# Altium footprint library Transistors.PcbLib: 12 footprints
Each footprint in its own frame and in the unit in brackets; x right, y up, seen from the top. Pads: shape width x height; smd on the part's side, far side on the other; paste and mask are expansions set on the pad; w line width, h text height; cw(c..) or ccw(c..) is an arc to the next point about the centre after c.
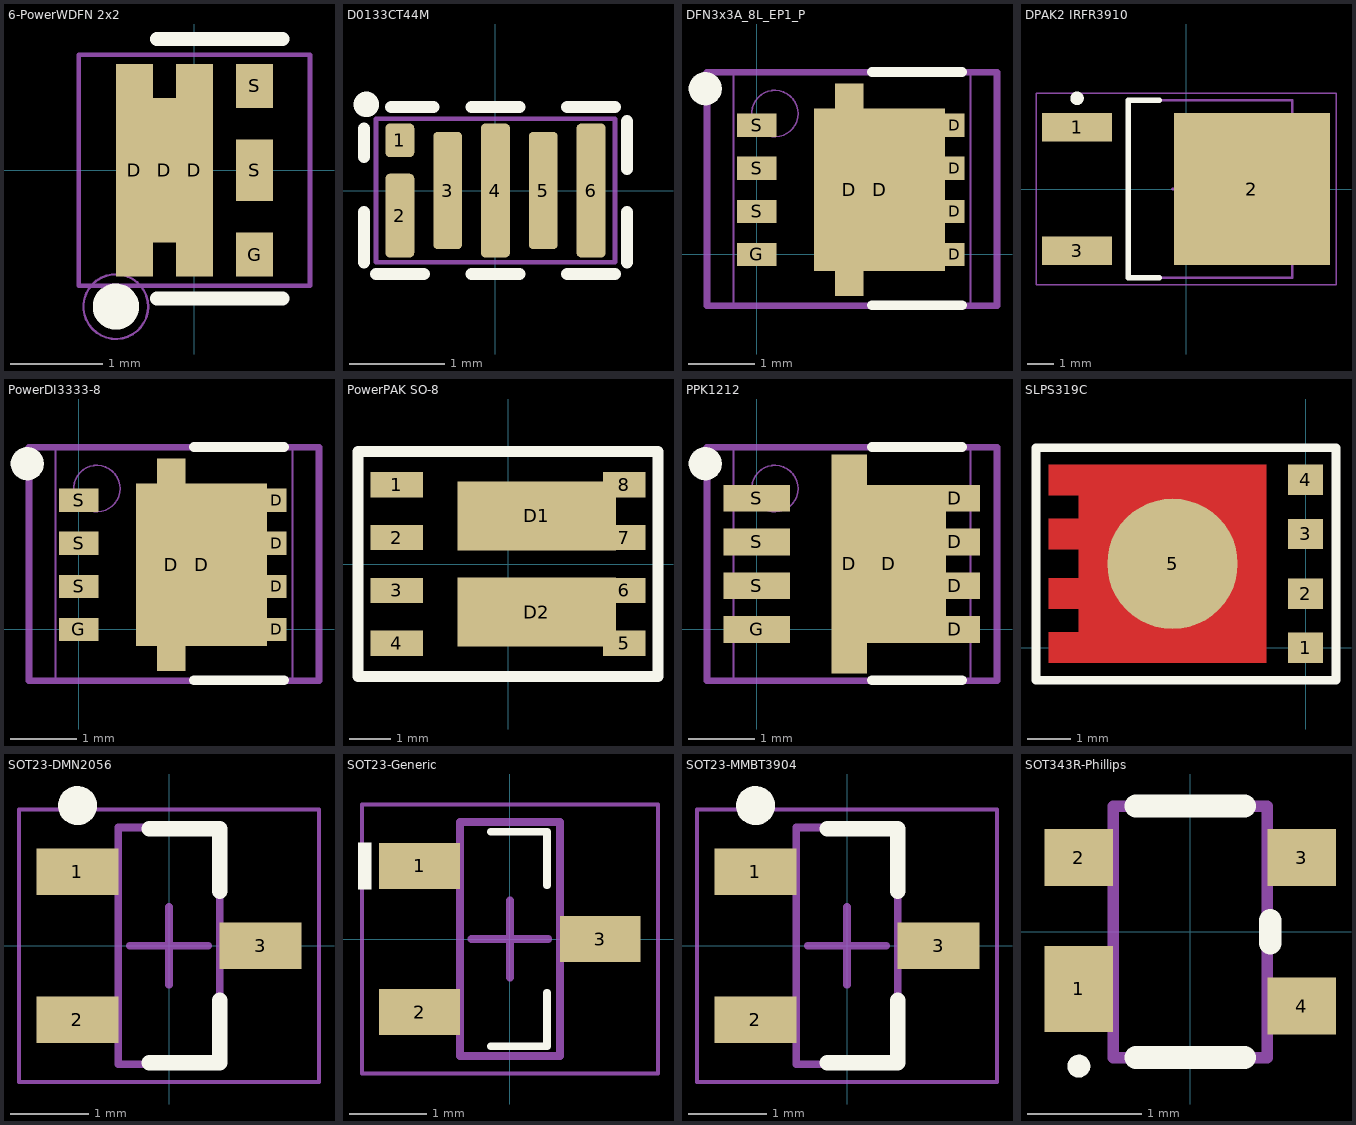
[diagram p0: the footprints below, top view; thin cyan lines are the x and y axes]

## 6-PowerWDFN 2x2 [mm] "onsemi 6-MicroFET"
pads (6):
  rect 0.4x2.3 smd paste-3 mask+0: D(-0.65,0) D(0,0)
  rect 1.05x1.56 smd paste-0.2: D(-0.325,0)
  rect 0.4x0.475 smd: G(0.65,-0.913) S(0.65,0.913)
  rect 0.4x0.66 smd: S(0.65,0)
Top Overlay:
  circle w0.25: c-0.85,-1.475 r0.125
  lines w0.15: -0.407,-1.387 0.953,-1.387 ; -0.407,1.419 0.953,1.419
Top Assy Drawing:
  lines w0.05: -1.25,-1.25 1.25,-1.25 1.25,1.25 -1.25,1.25 -1.25,-1.25
  lines w0.1: -0.15,0 0.15,0 ; 0,-0.15 0,0.15
  text ".Designator" at -2.321,-0.275 h0.38
Top Dimensions and Assy Info:
  circle w0.025: c-0.85,-1.475 r0.35
3D body "6-PowerWDFN v4.step": height 0.7, standoff 0, extent -1.025,-1.025 1.025,1.025

## D0133CT44M [mm] "EPC2055/EPC2204"
height 0.7
pads (18):
  rrect30% 0.301x0.351 smd paste-0.2 mask-0.2: 1(-1,0.525)
  rrect30% 0.301x0.876 smd paste-0.2 mask-0.2: 2(-1,-0.262)
  rrect30% 0.301x1.226 smd paste-0.2 mask-0.2: 3(-0.5,0) 5(0.5,0)
  rrect30% 0.301x1.401 smd paste-0.2 mask-0.2: 4(0,0) 6(1,0)
  rrect50% 0.23x0.805 on Top Solder mask-0.2: ""(-1,-0.262)
  rrect50% 0.23x0.28 on Top Solder mask-0.2: ""(-1,0.525)
  rrect50% 0.23x0.805 on Top Paste mask-0.2: ""(-1,-0.261)
  rrect50% 0.23x0.28 on Top Paste mask-0.2: ""(-1,0.526)
  rrect50% 0.23x1.155 on Top Solder mask-0.2: ""(-0.5,0) ""(0.5,0)
  rrect50% 0.21x1.155 on Top Paste mask-0.2: ""(-0.5,0.001) ""(0.5,0.001)
  rrect50% 0.23x1.33 on Top Solder mask-0.2: ""(0,0) ""(1,0)
  rrect50% 0.21x1.33 on Top Paste mask-0.2: ""(0,0.001) ""(1,0.001)
Top Overlay:
  circle w0.254: c-1.35,0.901 r0.006
  lines w0.127: -1.375,-0.75 -1.375,-0.225 ; -1.375,0.35 -1.375,0.649 ; -1.25,-0.875 -0.75,-0.875 ; -1.09,0.875 -0.65,0.875 ; -0.25,-0.875 0.25,-0.875 ; -0.25,0.875 0.25,0.875 ; 0.75,-0.875 1.25,-0.875 ; 0.75,0.875 1.25,0.875 ; 1.375,-0.75 1.375,-0.225 ; 1.375,0.225 1.375,0.725
3D Bodies:
  lines w0.05: -1.25,-0.75 -1.25,0.75 1.25,0.75 1.25,-0.75 -1.25,-0.75
3D body: height 0.21, standoff -0.03, extent 0.375,-0.452 0.624,0.453
3D body: height 0.22, standoff -0.04, extent 0.382,-0.575 0.624,-0.329
3D body: height 0.22, standoff -0.04, extent 0.382,0.33 0.624,0.576
3D body: height 0.22, standoff -0.04, extent 0.882,0.417 1.125,0.664
3D body: height 0.22, standoff -0.04, extent 0.882,-0.663 1.125,-0.416
3D body: height 0.21, standoff -0.03, extent 0.875,-0.539 1.124,0.541
3D body: height 0.21, standoff -0.03, extent -0.125,-0.54 0.124,0.54
3D body: height 0.22, standoff -0.04, extent -0.118,-0.663 0.124,-0.417
3D body: height 0.22, standoff -0.04, extent -0.118,0.417 0.124,0.663
3D body: height 0.22, standoff -0.04, extent -0.618,0.329 -0.376,0.576
3D body: height 0.22, standoff -0.04, extent -0.618,-0.576 -0.376,-0.329
3D body: height 0.21, standoff -0.03, extent -0.625,-0.452 -0.376,0.452
3D body: height 0.22, standoff -0.04, extent -1.131,-0.539 -0.87,0.016
3D body: height 0.22, standoff -0.04, extent -1.118,-0.662 -0.876,-0.416
3D body: height 0.22, standoff -0.04, extent -1.118,-0.108 -0.876,0.139
3D body: height 0.65, standoff 0.64, extent -1.149,0.376 -0.85,0.675
3D body: height 0.22, standoff -0.04, extent -1.118,0.403 -0.875,0.649
3D body: height 0.64, standoff 0.12, extent -1.25,-0.749 1.25,0.751
3D body "3D_EPClogo2mm.step": height 0.64, standoff 0.64, extent -0.996,-0.449 1,0.45

## DFN3x3A_8L_EP1_P [mm] "AON7401 P-Mos"
pads (10):
  rect 0.43x3.21 smd paste-3 mask+0: D(1.4,0.975)
  rect 1.98x2.45 smd paste-0.2: D(1.854,0.975)
  rect 0.3x0.35 smd: D(2.985,0) D(2.985,0.65) D(2.985,1.3) D(2.985,1.95)
  rect 0.6x0.35 smd: G(0,0) S(0,0.65) S(0,1.3) S(0,1.95)
Top Overlay:
  circle w0.25: c-0.775,2.5 r0.125
  lines w0.15: 1.74,-0.766 3.1,-0.766 ; 1.74,2.75 3.1,2.75
Top Assy Drawing:
  lines w0.1: 1.288,0.984 1.587,0.984 ; 1.438,0.834 1.438,1.134 ; -0.75,-0.775 3.625,-0.775 3.625,2.75 -0.75,2.75 -0.75,-0.775
  text ".Designator" at -0.518,0.705 h0.38
Top Dimensions and Assy Info:
  circle w0.025: c0.275,2.125 r0.35
  lines w0.025: -0.35,-0.775 -0.35,2.75 3.225,2.75 3.225,-0.775 -0.35,-0.775
3D body "PowerPAK 1212-8 Single Pad.step": height 1.03, standoff -0.01, extent -0.337,-0.791 3.213,2.759

## DPAK2 IRFR3910 [mm] "D-PAK, 3-Pads, Body 6.15x6.65mm (max), IPC Medium Density"
height 2.29
pads (3):
  rect 2.6x1.06 smd: 1(-4.05,2.29) 3(-4.05,-2.29)
  rect 5.8x5.632 smd: 2(2.45,0)
Top Overlay:
  circle w0.25: c-4.05,3.37 r0.125
  lines w0.2: -1,-3.3 -2.15,-3.3 -2.15,3.3 -1,3.3
3D Bodies:
  lines w0.1: -2.15,-3.3 3.95,-3.3 3.95,3.3 -2.15,3.3 -2.15,-3.3
Mechanical 15:
  lines w0.05: -5.575,-3.55 5.575,-3.55 5.575,3.55 -5.575,3.55 -5.575,-3.55
  lines w0.1: -0.5,0 0.5,0 ; 0,-0.5 0,0.5
3D body "TO-252AA-IRF-DPAK v1.step": height 2.39, standoff 0, extent -5.207,-3.356 5.207,3.356

## PowerDI3333-8 [mm] "Diodes Inc"
pads (10):
  rect 0.43x3.21 smd paste-3 mask+0: D(1.4,0.975)
  rect 1.98x2.45 smd paste-0.2: D(1.854,0.975)
  rect 0.3x0.35 smd: D(2.985,0) D(2.985,0.65) D(2.985,1.3) D(2.985,1.95)
  rect 0.6x0.35 smd: G(0,0) S(0,0.65) S(0,1.3) S(0,1.95)
Top Overlay:
  circle w0.25: c-0.775,2.5 r0.125
  lines w0.15: 1.74,-0.766 3.1,-0.766 ; 1.74,2.75 3.1,2.75
Top Assy Drawing:
  lines w0.1: 1.288,0.984 1.587,0.984 ; 1.438,0.834 1.438,1.134 ; -0.75,-0.775 -0.75,2.75 3.625,2.75 3.625,-0.775 -0.75,-0.775
  text ".Designator" at -0.518,0.705 h0.38
Top Dimensions and Assy Info:
  circle w0.025: c0.275,2.125 r0.35
  lines w0.025: -0.35,-0.775 3.225,-0.775 3.225,2.75 -0.35,2.75 -0.35,-0.775
3D body "PowerDI3333-8 v2.step": height 0.85, standoff 0, extent -0.237,-0.691 3.113,2.659

## PowerPAK SO-8 [mm]
pads (10):
  rect 1.27x0.61 smd: 1(-2.67,1.905) 2(-2.67,0.635) 3(-2.67,-0.635) 4(-2.67,-1.905)
  rect 1.02x0.61 smd: 5(2.795,-1.905) 6(2.795,-0.635) 7(2.795,0.635) 8(2.795,1.905)
  rect 3.81x1.65 smd: D1(0.69,1.155) D2(0.69,-1.155)
Top Overlay:
  lines w0.254: -3.6,-2.7 -3.6,0 -3.6,2.7 3.6,2.7 3.6,0 3.6,-2.7 -3.6,-2.7
3D body "PowerPAK SO-8 (D).step": height 1.04, standoff 0, extent -3.075,-2.575 3.075,2.575

## PPK1212 [mm] "Si7414 N-ch MOSFET"
pads (10):
  rect 0.535x3.305 smd paste-3 mask+0: D(1.398,0.99)
  rect 1.725x2.385 smd paste-0.2: D(1.993,0.99)
  rect 0.76x0.405 smd: D(2.985,0) D(2.985,0.66) D(2.985,1.32) D(2.985,1.98)
  rect 1x0.405 smd: G(0,0) S(0,0.66) S(0,1.32) S(0,1.98)
Top Overlay:
  circle w0.25: c-0.775,2.5 r0.125
  lines w0.15: 1.74,-0.766 3.1,-0.766 ; 1.74,2.75 3.1,2.75
Top Assy Drawing:
  lines w0.1: 1.288,0.984 1.587,0.984 ; 1.438,0.834 1.438,1.134 ; -0.75,-0.775 3.625,-0.775 3.625,2.75 -0.75,2.75 -0.75,-0.775
  text ".Designator" at -0.518,0.705 h0.38
Top Dimensions and Assy Info:
  circle w0.025: c0.275,2.125 r0.35
  lines w0.025: -0.35,-0.775 -0.35,2.75 3.225,2.75 3.225,-0.775 -0.35,-0.775
3D body "PowerPAK 1212-8 Single Pad.step": height 1.03, standoff -0.01, extent -0.337,-0.791 3.213,2.759

## SLPS319C [mm] "8-PowerTDFN"
height 1.1
pads (5):
  rect 0.8x0.7 smd: 1(0,0) 2(0,1.245) 3(0,2.615) 4(0,3.86)
  round 3 smd paste+0 mask+0: 5(-3.06,1.93)
Top Layer:
  region: -5.905,4.21 -5.905,3.51 -5.22,3.51 -5.22,2.965 -5.905,2.965 -5.905,2.265 -5.22,2.265 -5.22,1.595 -5.905,1.595 -5.905,0.895 -5.22,0.895 -5.22,0.35 -5.905,0.35 -5.905,-0.35 -0.9,-0.35 -0.9,4.21
Top Overlay:
  lines w0.2: 0.68,-0.75 -6.2,-0.75 -6.2,4.6 0.27,4.6 0.7,4.6 0.7,-0.75
3D body "Q5A.STEP": height 1.05, standoff 0, extent -5.7,-0.57 0.3,4.43

## SOT23-DMN2056 [mm] "SOT23, 3-Leads: 1=G, 2=S, 3=D Body 2.92x2.37mm, Pitch 0.95mm, IPC Medium Density"
height 1.11
pads (3):
  rect 1.05x0.6 smd: 1(-1.175,0.95) 2(-1.175,-0.95) 3(1.175,0)
Top Overlay:
  circle w0.25: c-1.175,1.8 r0.125
  lines w0.2: -0.25,-1.5 0.65,-1.5 0.65,-0.7 ; -0.25,1.5 0.65,1.5 0.65,0.7
Top Assy Drawing:
  lines w0.1: -0.65,-1.52 -0.65,1.52 0.65,1.52 0.65,-1.52 -0.65,-1.52
Mechanical 15:
  lines w0.05: -1.925,-1.75 -1.925,1.75 1.925,1.75 1.925,-1.75 -1.925,-1.75
  lines w0.1: -0.5,0 0.5,0 ; 0,-0.5 0,0.5
3D body "SOT23-MMBT3904.step": height 1.11, standoff 0, extent -1.42,-1.52 1.42,1.52

## SOT23-Generic [mm] "SOT23, 3-Leads, Body 2.92x2.37mm, Pitch 0.95mm, IPC Medium Density"
height 1.11
pads (3):
  rect 1.05x0.6 smd: 1(-1.175,0.95) 2(-1.175,-0.95) 3(1.175,0)
Top Overlay:
  region: -1.8,1.25 -1.8,0.65 -1.975,0.65 -1.975,1.25
  lines w0.1: -0.25,-1.393 0.481,-1.393 0.481,-0.7 ; -0.25,1.393 0.481,1.393 0.481,0.7
Top Assy Drawing:
  lines w0.1: -0.65,-1.52 0.65,-1.52 0.65,1.52 -0.65,1.52 -0.65,-1.52
  text ".Designator" at -0.5,2.6 h0.51
Mechanical 15:
  lines w0.05: -1.925,-1.75 1.925,-1.75 1.925,1.75 -1.925,1.75 -1.925,-1.75
  lines w0.1: -0.5,0 0.5,0 ; 0,-0.5 0,0.5
3D body "SOT23-3 (2).stp": height 1.17, standoff -0.01, extent -1.418,-1.5 1.418,1.5

## SOT23-MMBT3904 [mm] "SOT23, 3-Leads, Body 2.92x2.37mm, Pitch 0.95mm, IPC Medium Density"
height 1.11
pads (3):
  rect 1.05x0.6 smd: 1(-1.175,0.95) 2(-1.175,-0.95) 3(1.175,0)
Top Overlay:
  circle w0.25: c-1.175,1.8 r0.125
  lines w0.2: -0.25,-1.5 0.65,-1.5 0.65,-0.7 ; -0.25,1.5 0.65,1.5 0.65,0.7
Top Assy Drawing:
  lines w0.1: -0.65,-1.52 0.65,-1.52 0.65,1.52 -0.65,1.52 -0.65,-1.52
Mechanical 15:
  lines w0.05: -1.925,-1.75 1.925,-1.75 1.925,1.75 -1.925,1.75 -1.925,-1.75
  lines w0.1: -0.5,0 0.5,0 ; 0,-0.5 0,0.5
3D body "SOT23-MMBT3904.step": height 1.11, standoff 0, extent -1.42,-1.52 1.42,1.52

## SOT343R-Phillips [mm] "SOT343, 4-Leads, Body 2.00x2.10mm, Pitch 1.30mm, IPC High Density"
height 1.1
pads (4):
  rect 0.6x0.75 smd: 1(-0.975,-0.5)
  rect 0.6x0.5 smd: 2(-0.975,0.65) 3(0.975,0.65) 4(0.975,-0.65)
Top Overlay:
  circle w0.1: c-0.975,-1.175 r0.05
  lines w0.2: -0.475,-1.1 0.475,-1.1 ; -0.475,1.1 0.475,1.1 ; 0.7,-0.1 0.7,0.1
Top Assy Drawing:
  lines w0.1: -0.675,-1.1 0.675,-1.1 0.675,1.1 -0.675,1.1 -0.675,-1.1
  text ".Designator" at 0.356,-2.007 h0.38
3D body "SOT343R-Phillips.step": height 1.1, standoff 0.02, extent -1.04,-1.1 1.04,1.1